# Altium footprint library PCBlib.PcbLib: 43 footprints (part 3 of 3)
Each footprint in its own frame and in the unit in brackets; x right, y up, seen from the top. Pads: shape width x height; smd on the part's side, far side on the other; paste and mask are expansions set on the pad; w line width, h text height; cw(c..) or ccw(c..) is an arc to the next point about the centre after c.
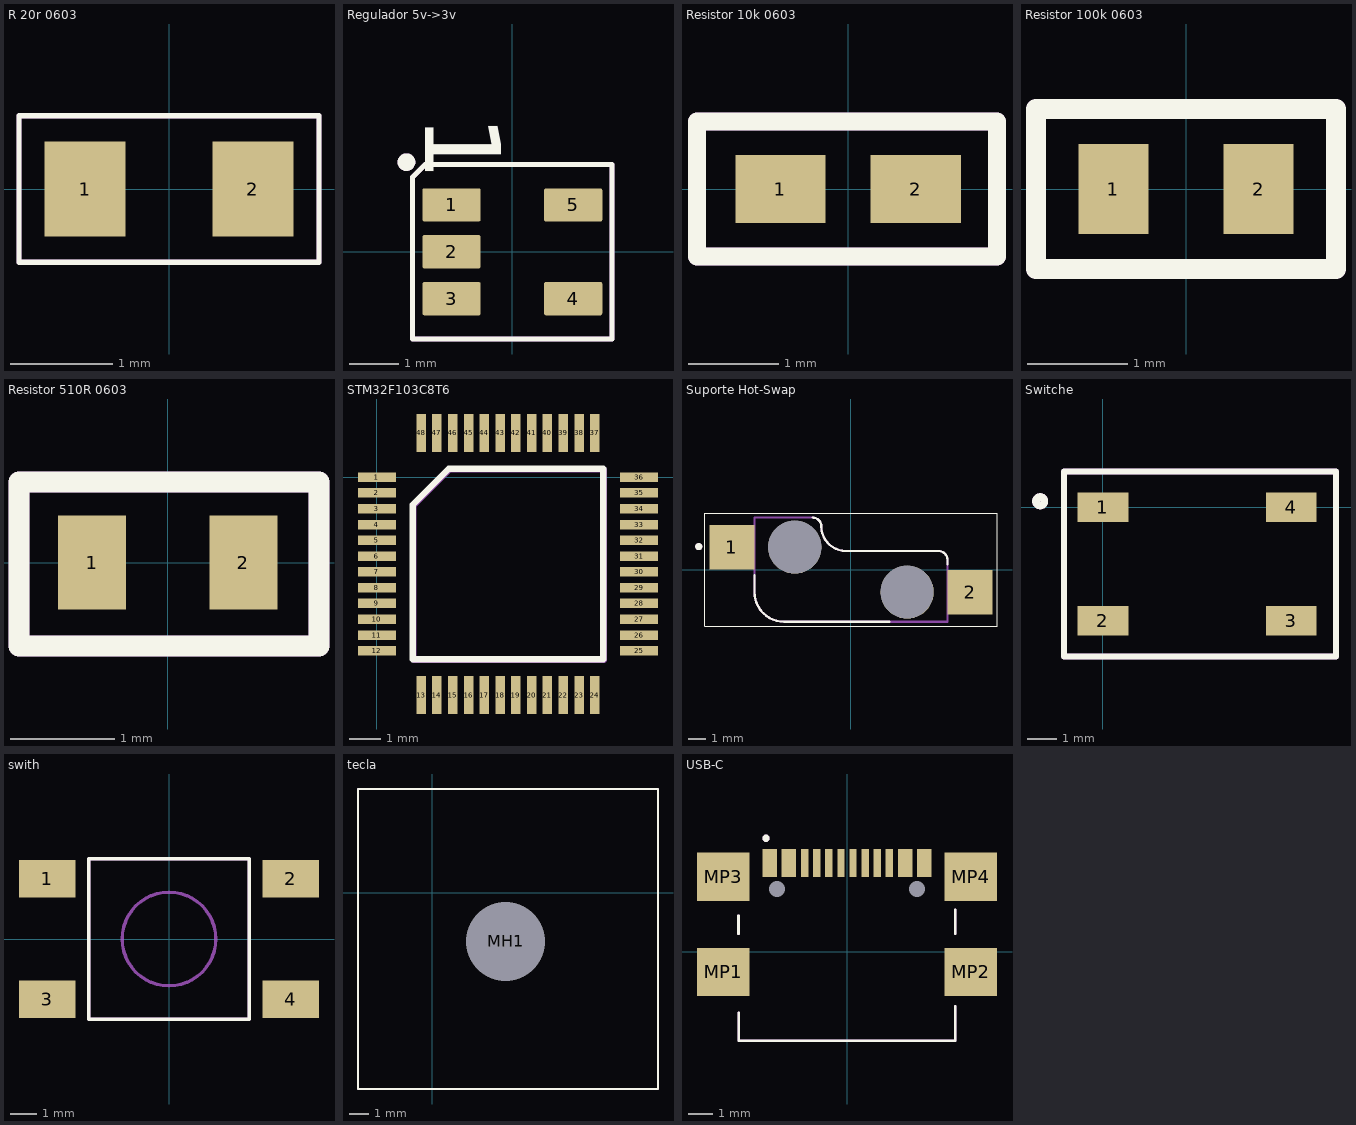
[diagram p2: the footprints below, top view; thin cyan lines are the x and y axes]

## R 20r 0603 [mm]
pads (2):
  rect 0.79x0.93 smd: 1(-0.82,0) 2(0.82,0)
Top Overlay:
  lines w0.05: -1.465,-0.715 1.465,-0.715 1.465,0.715 -1.465,0.715 -1.465,-0.715
Top Assembly:
  lines w0.05: -1.465,-0.715 1.465,-0.715 1.465,0.715 -1.465,0.715 -1.465,-0.715
  text ".Designator" at -1.325,-0.617 h0.7
3D body "R 20r 0603.step": height 0.56, standoff 0.01, extent -0.8,-0.4 0.8,0.4

## Regulador 5v->3v [mm]
pads (5):
  rrect12% 1.17x0.67 smd: 1(-1.22,0.94) 2(-1.22,0) 3(-1.22,-0.94) 4(1.22,-0.94) 5(1.22,0.94)
Top Overlay:
  circle w0.254: c-2.125,1.8 r0.05
  lines w0.1: 2,-1.75 -2,-1.75 -2,1.5 -1.75,1.75 2,1.75 2,-1.75 ; 2,-1.75 2,-1.75 ; -2,1.25 -2,1.25
  text "1" at -1.746,2.746 h1.52
Top Assembly:
  circle w0.254: c-2.125,1.8 r0.05
  lines w0.1: 2,-1.75 -2,-1.75 -2,1.5 -1.75,1.75 2,1.75 2,-1.75 ; 2,-1.75 2,-1.75 ; -2,1.25 -2,1.25
  text ".Designator" at -1.825,-1.667 h0.7
3D body "regulador.STEP": height 1.16, standoff -0.14, extent -1.397,-1.448 1.397,1.448

## Resistor 10k 0603 [mm]
pads (2):
  rect 1x0.75 smd paste-2539.97: 1(-0.75,0) 2(0.75,0)
Top Overlay:
  lines w0.2: -1.675,-0.75 -1.675,0.75 1.65,0.75 1.65,-0.75 -1.675,-0.75
Top Paste:
  region: 0.25,-0.375 0.25,0.375 1.25,0.375 1.25,-0.375
  region: -1.25,-0.375 -1.25,0.375 -0.25,0.375 -0.25,-0.375
Top Assembly:
  lines w0.2: -1.675,-0.75 -1.675,0.75 1.65,0.75 1.65,-0.75 -1.675,-0.75
  text ".Designator" at -1.325,-0.417 h0.7
3D body "CRCW060310K0FKEA.STEP": height 0.56, standoff 0.01, extent -0.8,-0.425 0.75,0.425

## Resistor 100k 0603 [mm]
pads (2):
  rect 0.7x0.9 smd paste-2539.97: 1(-0.725,0) 2(0.725,0)
Top Overlay:
  lines w0.2: -1.5,-0.8 -1.5,0.8 ; -1.5,-0.8 1.5,-0.8 ; -1.5,-0.8 -1.5,0.8 ; -1.5,-0.8 1.5,-0.8 ; -1.5,-0.8 -1.5,0.8 ; -1.5,-0.8 1.5,-0.8 ; -1.5,0.8 1.5,0.8 ; -1.5,0.8 1.5,0.8 ; -1.5,0.8 1.5,0.8 ; 1.5,-0.8 1.5,0.8 ; 1.5,-0.8 1.5,0.8 ; 1.5,-0.8 1.5,0.8
Top Paste:
  region: -1.075,-0.45 -1.075,0.45 -0.375,0.45 -0.375,-0.45
  region: 0.375,-0.45 0.375,0.45 1.075,0.45 1.075,-0.45
Top Assembly:
  lines w0.2: -1.5,-0.8 -1.5,0.8 1.5,0.8 1.5,-0.8 -1.5,-0.8
  text ".Designator" at -1.5,-0.467 h0.7
3D body "resistor 100k 0603.step": height 0.54, standoff -0.01, extent -0.775,-0.4 0.775,0.4

## Resistor 510R 0603 [mm]
pads (2):
  rect 0.65x0.9 smd paste-2539.97: 1(-0.725,0) 2(0.725,0)
Top Overlay:
  lines w0.2: -1.425,-0.8 1.45,-0.8 1.45,0.775 -1.425,0.775 -1.425,-0.8
Top Paste:
  region: 0.4,-0.45 0.4,0.45 1.05,0.45 1.05,-0.45
  region: -1.05,-0.45 -1.05,0.45 -0.4,0.45 -0.4,-0.45
Top Assembly:
  lines w0.2: -1.425,-0.8 1.45,-0.8 1.45,0.775 -1.425,0.775 -1.425,-0.8
  text ".Designator" at -1.475,-0.467 h0.7
3D body "resistor 510r 0603.stp": height 0.46, standoff 0.01, extent -0.775,-0.4 0.775,0.4

## STM32F103C8T6 [mm]
pads (48):
  rect 1.2x0.3 smd: 1(0,0) 2(0,-0.5) 3(0,-1) 4(0,-1.5) 5(0,-2) 6(0,-2.5) 7(0,-3) 8(0,-3.5) 9(0,-4) 10(0,-4.5) 11(0,-5) 12(0,-5.5) 25(8.3,-5.5) 26(8.3,-5) 27(8.3,-4.5) 28(8.3,-4) 29(8.3,-3.5) 30(8.3,-3) 31(8.3,-2.5) 32(8.3,-2) 33(8.3,-1.5) 34(8.3,-1) 35(8.3,-0.5) 36(8.3,0)
  rect 0.3x1.2 smd: 13(1.4,-6.9) 14(1.9,-6.9) 15(2.4,-6.9) 16(2.9,-6.9) 17(3.4,-6.9) 18(3.9,-6.9) 19(4.4,-6.9) 20(4.9,-6.9) 21(5.4,-6.9) 22(5.9,-6.9) 23(6.4,-6.9) 24(6.9,-6.9) 37(6.9,1.4) 38(6.4,1.4) 39(5.9,1.4) 40(5.4,1.4) 41(4.9,1.4) 42(4.4,1.4) 43(3.9,1.4) 44(3.4,1.4) 45(2.9,1.4) 46(2.4,1.4) 47(1.9,1.4) 48(1.4,1.4)
Top Overlay:
  lines w0.2: 1.135,-5.765 1.135,-0.87 2.27,0.265 7.165,0.265 7.165,-5.765 1.135,-5.765
Top Assembly:
  lines w0.2: 1.16,-5.79 1.16,-0.895 2.295,0.24 7.19,0.24 7.19,-5.79 1.16,-5.79
  text ".Designator" at 1.5,-5.167 h0.7
3D body "STM32F103C8T6.STEP": height 1.46, standoff -0.14, extent -0.35,-7.25 8.65,1.75

## Suporte Hot-Swap [mm]
pads (4):
  rect 2.55x2.5 smd: 1(-6.725,1.27) 2(6.725,-1.27)
  round 3 hole 3 unplated: ""(-3.175,1.27) ""(3.175,-1.27)
Top Overlay:
  circle w0.2: c-8.6,1.3 r0.1
  lines w0.05: -8.25,-3.195 8.25,-3.195 8.25,3.195 -8.25,3.195 -8.25,-3.195
  lines w0.127: -5.45,-0.3 -5.45,-1.27 ccw(c-3.775,-1.27) -3.775,-2.945 2.175,-2.945 ; -2.175,2.945 cw(c-2.175,2.445) -1.675,2.445 ccw(c-0.285,2.445) -0.285,1.055 4.95,1.055 cw(c4.95,0.555) 5.45,0.555 5.45,0.3
Top Assembly:
  circle w0.2: c-8.6,1.3 r0.1
  lines w0.127: -5.45,-1.27 ccw(c-3.775,-1.27) -3.775,-2.945 5.45,-2.945 5.45,0.555 ccw(c4.95,0.555) 4.95,1.055 -0.285,1.055 cw(c-0.285,2.445) -1.675,2.445 ccw(c-2.175,2.445) -2.175,2.945 -5.45,2.945 -5.45,-1.27
  text ".Designator" at -3.725,-2.617 h0.7
3D body "suporte HS.stp": height 1.81, standoff -1.24, extent -7.25,-2.945 7.25,2.945

## Switche [mm]
pads (4):
  rect 1.7x1 smd: 1(0,0) 2(0,-3.8) 3(6.3,-3.8) 4(6.3,0)
Top Overlay:
  circle w0.254: c-2.1,0.2 r0.141
  lines w0.2: -1.3,-5 -1.3,1.2 7.8,1.2 7.8,-5 -1.3,-5
Top Assembly:
  circle w0.254: c-2.1,0.2 r0.141
  lines w0.2: -1.3,-5 7.8,-5 7.8,1.2 -1.3,1.2 -1.3,-5
  text ".Designator" at -0.9,-4.667 h0.7
3D body "Switche.STEP": height 1.51, standoff 0.01, extent -0.1,-4.5 6.3,0.7

## swith [mm]
pads (4):
  rect 2.1x1.4 smd: 1(-4.55,2.25) 2(4.55,2.25) 3(-4.55,-2.25) 4(4.55,-2.25)
Top Overlay:
  lines w0.127: -3,-3 -3,3 3,3 3,-3 -3,-3
Top Assembly:
  circle w0.127: c0,0 r1.75
  lines w0.127: -3,-3 -3,3 3,3 3,-3 -3,-3
  text ".Designator" at -2.6,-2.467 h0.7
3D body "swith.STEP": height 4.45, standoff -0.14, extent -5.2,-3 4.8,3

## tecla [mm]
pads (1):
  round 2.045 hole 4.089 unplated: MH1(3.81,-2.54)
Top Overlay:
  lines w0.1: -3.863,-10.213 11.737,-10.213 11.737,5.387 -3.863,5.387 -3.863,-10.213
Top Assembly:
  lines w0.1: -3.863,-10.213 11.737,-10.213 11.737,5.387 -3.863,5.387 -3.863,-10.213
  text ".Designator" at -3.2,-9.767 h0.7
3D body "tecla2.step": height 15.41, standoff -3.39, extent -3.975,-10.225 11.625,5.375

## USB-C [mm]
pads (22):
  rect 0.3x1.15 smd: A1(-3.35,3.678) A4(-2.55,3.678) A5(-1.25,3.678) A6(-0.25,3.678) A7(0.25,3.678) A8(1.25,3.678) A9(2.55,3.678) A12(3.35,3.678) B1(3.05,3.678) B4(2.25,3.678) B5(1.75,3.678) B6(0.75,3.678) B7(-0.75,3.678) B8(-1.75,3.678) B9(-2.25,3.678) B12(-3.05,3.678)
  round 0.325 hole 0.65 unplated: MH1(-2.89,2.603) MH2(2.89,2.603)
  rect 2.18x2 smd: MP1(-5.11,-0.827) MP2(5.11,-0.827) MP3(-5.11,3.103) MP4(5.11,3.103)
Top Overlay:
  lines w0.1: -4.47,-3.677 4.47,-3.677 ; -4.47,-3.677 4.47,-3.677 ; -4.47,-3.677 -4.47,-2.5 -4.47,-3.677 ; 4.47,-3.677 4.47,-2.25 4.47,-3.677 ; -4.5,0.75 -4.47,0.75 -4.47,1.5 -4.5,1.5 -4.5,0.75 ; 4.47,0.75 4.47,1.75 4.47,0.75
  lines w0.2: -3.4,4.7 ccw(c-3.35,4.7) -3.3,4.7 ; -3.4,4.7 cw(c-3.35,4.7) -3.3,4.7 ; -3.4,4.7 ccw(c-3.35,4.7) -3.3,4.7
Top Assembly:
  lines w0.1: -4.47,-3.677 4.47,-3.677 ; -4.47,-3.677 4.47,-3.677 ; -4.47,-3.677 -4.47,-2.5 -4.47,-3.677 ; 4.47,-3.677 4.47,-2.25 4.47,-3.677 ; -4.5,0.75 -4.47,0.75 -4.47,1.5 -4.5,1.5 -4.5,0.75 ; 4.47,0.75 4.47,1.75 4.47,0.75
  lines w0.2: -3.4,4.7 ccw(c-3.35,4.7) -3.3,4.7 ; -3.4,4.7 cw(c-3.35,4.7) -3.3,4.7 ; -3.4,4.7 ccw(c-3.35,4.7) -3.3,4.7
  text ".Designator" at -4.1,-3.067 h0.7
3D body "USBC.stp": height 3.27, standoff -0.61, extent -5.65,-3.58 5.65,4.12